# Altium footprint library ROBOCAM_1.PcbLib: 116 footprints (part 6 of 8)
Each footprint in its own frame and in the unit in brackets; x right, y up, seen from the top. Pads: shape width x height; smd on the part's side, far side on the other; paste and mask are expansions set on the pad; w line width, h text height; cw(c..) or ccw(c..) is an arc to the next point about the centre after c.
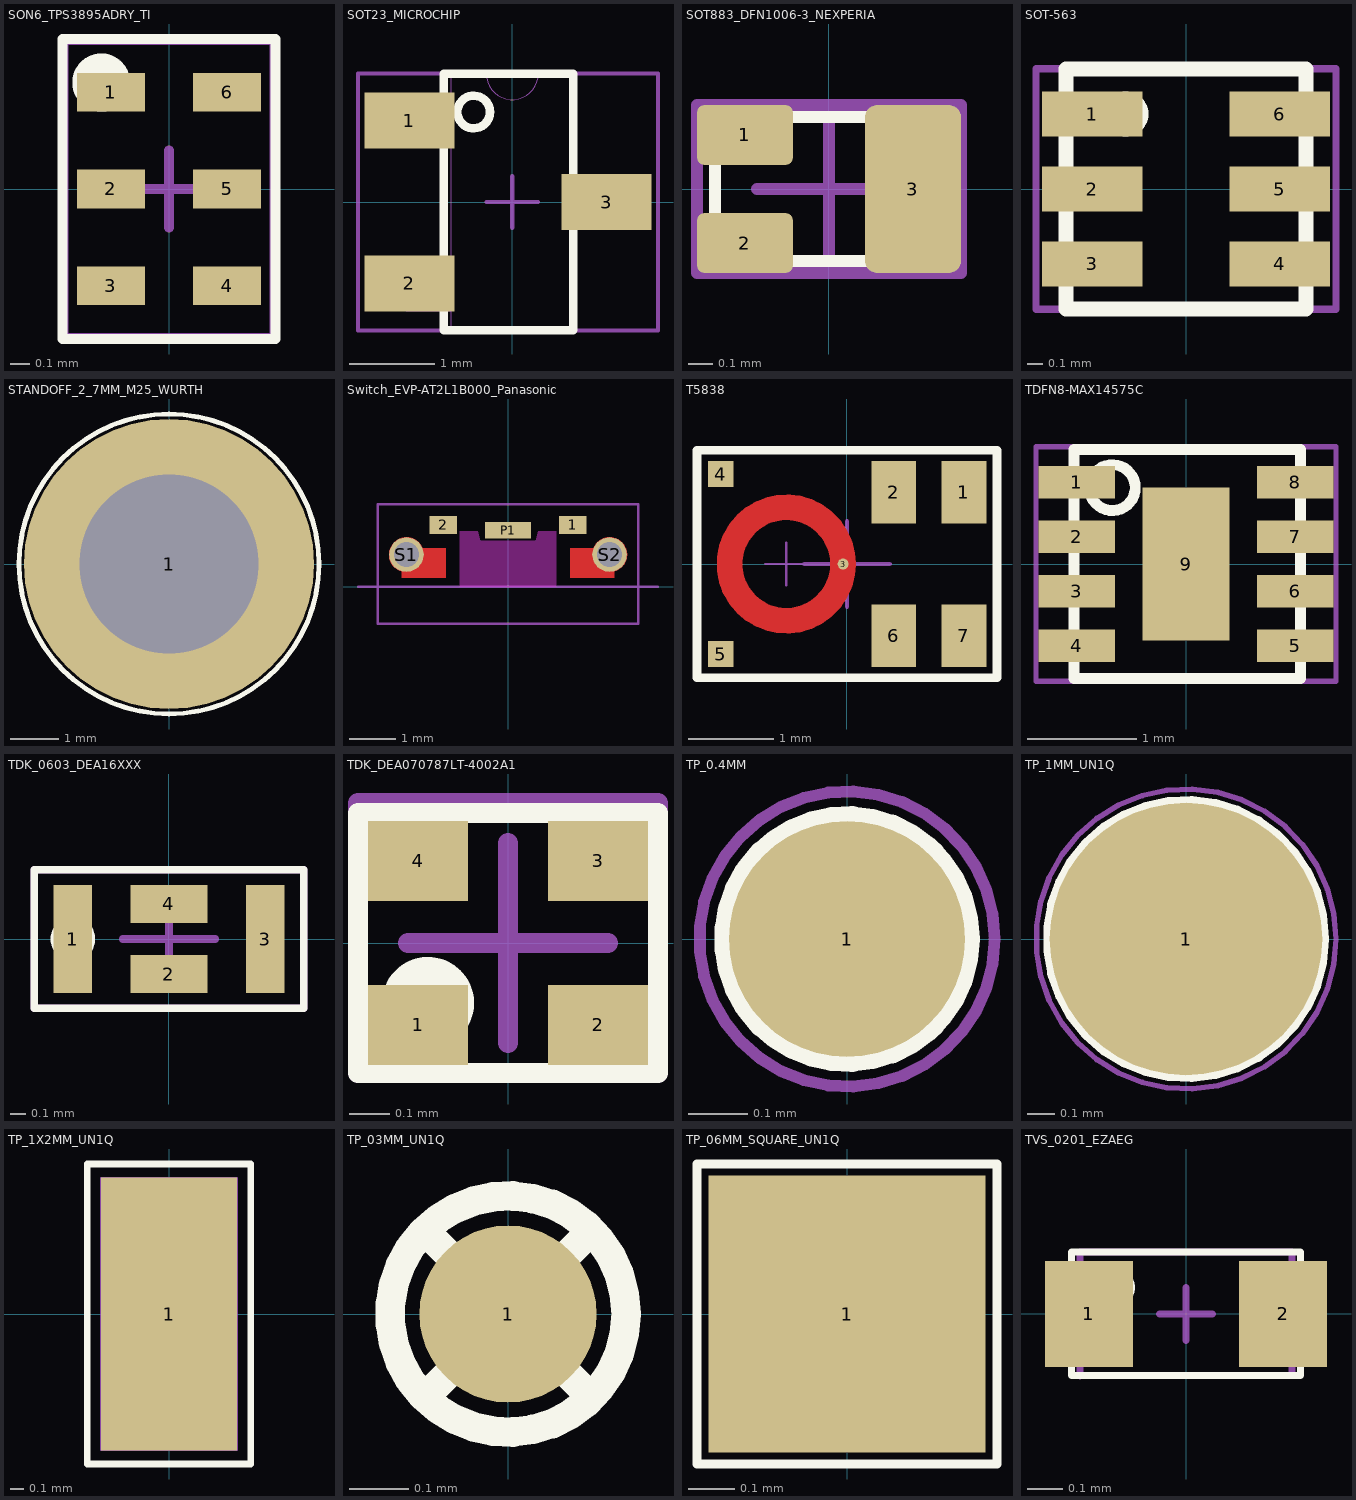
[diagram p5: the footprints below, top view; thin cyan lines are the x and y axes]

## SON6_TPS3895ADRY_TI [mm] "6-UFDFN"
height 0.55
pads (6):
  rect 0.35x0.2 smd paste+0 mask+0.05: 1(-0.3,0.5) 2(-0.3,0) 3(-0.3,-0.5) 4(0.3,-0.5) 5(0.3,0) 6(0.3,0.5)
Top Overlay:
  circle w0.2: c-0.35,0.55 r0.05
  lines w0.05: -0.55,-0.775 0.55,-0.775 0.55,0.775 -0.55,0.775 -0.55,-0.775
Top Courtyard:
  lines w0.01: -0.525,-0.75 -0.525,0.75 0.525,0.75 0.525,-0.75 -0.525,-0.75
  lines w0.05: -0.2,0 0.2,0 ; 0,-0.2 0,0.2
Top Designator:
  text ".Designator" at 7.618,0.508 h1.52
3D body: height 0.7, standoff 0.69, extent -0.45,0.35 -0.15,0.65
3D body "TPS3895ADRYR.stp": height 0.7, standoff 0, extent -0.5,-0.725 0.5,0.725

## SOT23_MICROCHIP [mm] "SOT-23, 3 pins, 2.5 x 2.9 x 1.1mm for"
height 1.1
pads (3):
  rect 1.05x0.65 smd paste+0 mask+0.05: 1(-1.2,0.95) 2(-1.2,-0.95) 3(1.1,0)
Top Overlay:
  circle w0.1: c-0.45,1.05 r0.19
  lines w0.1: -0.8,-1.499 -0.8,1.499 0.711,1.499 0.711,-1.499 -0.8,-1.499
Top 3D Body:
  lines w0: -0.305,1.499 ccw(c0,1.499) 0.305,1.499 ; -1.245,-1.27 -1.245,-0.762 -0.711,-0.762 -0.711,-1.27 -1.245,-1.27 ; -1.245,0.762 -1.245,1.27 -0.711,1.27 -0.711,0.762 -1.245,0.762 ; -0.711,-1.499 0.711,-1.499 0.711,1.499 -0.711,1.499 -0.711,-1.499 ; 0.711,-0.254 0.711,0.254 1.245,0.254 1.245,-0.254 0.711,-0.254
Top Courtyard:
  lines w0.05: -0.3,0 0.3,0 ; 0,-0.3 0,0.3 ; -1.8,-1.5 -1.8,1.499 1.7,1.499 1.7,-1.5 -1.8,-1.5
Top Designator:
  text ".Designator" at -7.668,-0.508 h1.52
3D body "step_temp.STEP": height 1.15, standoff 0, extent -1.2,-1.45 1.2,1.45

## SOT883_DFN1006-3_NEXPERIA [mm] "DFN1006-3 1.0 x 0.6"
height 0.5
pads (3):
  rrect25% 0.4x0.25 smd paste-0.02 mask+0.05: 1(-0.35,0.225) 2(-0.35,-0.225)
  rrect25% 0.4x0.7 smd paste-0.04 mask+0.05: 3(0.35,0)
Top Overlay:
  circle w0.1: c-0.375,0.2 r0.05
  lines w0.05: -0.475,-0.3 -0.475,0.3 0.525,0.3 0.525,-0.3 -0.475,-0.3
Top Courtyard:
  lines w0.05: -0.3,0 0.3,0 ; 0,-0.3 0,0.3 ; -0.55,-0.35 -0.55,0.35 0.55,0.35 0.55,-0.35 -0.55,-0.35
Top Designator:
  text ".Designator" at -7.618,-0.508 h1.52
3D body "SOT883-2_Nexperia.step": height 0.5, standoff 0.02, extent -0.478,-0.3 0.522,0.3
3D body: height 0.5, standoff 0.4, extent -0.449,-0.275 0.475,0.275

## SOT-563 [mm] "SOT-563, SOT-666, EMT6"
height 0.5
pads (6):
  rect 0.67x0.3 smd paste+0 mask+0.05: 1(-0.625,0.5) 2(-0.625,0) 3(-0.625,-0.5) 4(0.625,-0.5) 5(0.625,0) 6(0.625,0.5)
Top Overlay:
  circle w0.15: c-0.4,0.5 r0.075
  lines w0.1: -0.8,-0.8 0.8,-0.8 0.8,0.8 -0.8,0.8 -0.8,-0.8
Top Courtyard:
  lines w0.05: -1,-0.8 1,-0.8 1,0.8 -1,0.8 -1,-0.8
Top Designator:
  text ".Designator" at -7.618,-0.508 h1.52
3D body "EM6M2T2R.stp": height 0.55, standoff 0, extent -0.8,-0.8 0.8,0.8
3D body: height 0.51, standoff 0.5, extent -0.5,0.4 -0.3,0.6

## STANDOFF_2_7MM_M25_WURTH [mm] "Standoff 2.7 mm M2.5  Hole 3.7 mm"
height 2.7
pads (1):
  round 6 / inner round 4 / far side round 4 hole 3.7 paste-2539.97 mask+0.1: 1(0,0)
Top Overlay:
  circle w0.1: c0,0 r3.1
Top Paste:
  lines w1.2: -0.846,-2.325 cw(c0,0) -0.846,2.325 ; 0.846,-2.325 ccw(c0,0) 0.846,2.325
Top Courtyard:
  circle w0.05: c0,0 r3.1
  lines w0.05: -1,0 1,0 ; 0,-1 0,1
Top Designator:
  text ".Designator" at 7.618,0.508 h1.52
3D body "9774027151R_rev1.stp": height 2.75, standoff -1.35, extent -2.55,-2.547 2.55,2.547

## Switch_EVP-AT2L1B000_Panasonic [mm]
height 1.65
pads (5):
  rect 0.6x0.4 smd: 1(1.4,1.34) 2(-1.4,1.34)
  rect 1x0.35 smd: P1(0,1.225)
  round 0.75 hole 0.55 mask+0.102: S1(-2.2,0.7) S2(2.2,0.7)
Top Layer:
  region: 2.22,1.075 2.239,1.073 2.258,1.071 2.277,1.067 2.296,1.063 2.315,1.057 2.334,1.051 2.352,1.044 2.369,1.035 2.386,1.026 2.403,1.016 2.419,1.005 2.435,0.994 2.45,0.981 2.464,0.968 2.478,0.954 2.491,0.94 2.503,0.925 2.514,0.909 2.525,0.893 2.535,0.876 2.543,0.858 2.551,0.841 2.558,0.822 2.564,0.804 2.569,0.785 2.574,0.766 2.577,0.747 2.579,0.728 2.58,0.71 2.58,0.688 2.579,0.669 2.577,0.649 2.574,0.629 2.57,0.61 2.565,0.591 2.559,0.572 2.552,0.553 2.544,0.535 2.535,0.518 2.525,0.501 2.514,0.484 2.502,0.468 2.49,0.453 2.476,0.438 2.462,0.424 2.447,0.411 2.432,0.399 2.416,0.387 2.399,0.377 2.382,0.367 2.364,0.358 2.346,0.351 2.327,0.344 2.308,0.338 2.289,0.333 2.269,0.33 2.25,0.327 2.23,0.326 2.21,0.325 2.3,0.325 2.3,0.2 1.35,0.2 1.35,0.84 1.855,0.84 1.861,0.853 1.867,0.866 1.874,0.879 1.881,0.892 1.889,0.904 1.897,0.917 1.906,0.928 1.915,0.94 1.925,0.951 1.935,0.962 1.945,0.972 1.956,0.982 1.967,0.991 1.979,1 1.991,1.009 2.003,1.017 2.015,1.024 2.028,1.032 2.041,1.038 2.055,1.044 2.068,1.05 2.082,1.055 2.096,1.059 2.11,1.063 2.125,1.067 2.139,1.069 2.153,1.072 2.168,1.073 2.183,1.074 2.2,1.075
  region: -2.185,1.075 -2.17,1.074 -2.155,1.073 -2.14,1.071 -2.125,1.068 -2.11,1.065 -2.095,1.061 -2.08,1.056 -2.066,1.051 -2.052,1.045 -2.038,1.039 -2.024,1.032 -2.011,1.025 -1.998,1.016 -1.985,1.008 -1.973,0.999 -1.961,0.989 -1.949,0.979 -1.938,0.968 -1.928,0.957 -1.917,0.946 -1.908,0.934 -1.899,0.922 -1.89,0.909 -1.882,0.896 -1.874,0.882 -1.867,0.869 -1.861,0.855 -1.855,0.84 -1.35,0.84 -1.35,0.2 -2.3,0.2 -2.3,0.325 -2.215,0.325 -2.235,0.326 -2.254,0.327 -2.274,0.33 -2.293,0.334 -2.312,0.338 -2.331,0.344 -2.35,0.351 -2.368,0.359 -2.386,0.368 -2.403,0.378 -2.419,0.388 -2.435,0.4 -2.45,0.412 -2.465,0.426 -2.479,0.44 -2.492,0.455 -2.504,0.47 -2.516,0.486 -2.526,0.503 -2.536,0.52 -2.544,0.538 -2.552,0.556 -2.558,0.575 -2.564,0.594 -2.568,0.613 -2.572,0.632 -2.574,0.652 -2.576,0.672 -2.576,0.691 -2.575,0.71 -2.573,0.731 -2.571,0.749 -2.568,0.768 -2.564,0.786 -2.559,0.804 -2.553,0.822 -2.546,0.84 -2.538,0.857 -2.53,0.873 -2.521,0.89 -2.511,0.905 -2.5,0.921 -2.488,0.936 -2.476,0.95 -2.463,0.963 -2.449,0.976 -2.435,0.989 -2.421,1 -2.405,1.011 -2.389,1.021 -2.373,1.03 -2.356,1.039 -2.339,1.046 -2.322,1.053 -2.304,1.059 -2.286,1.064 -2.268,1.068 -2.249,1.071 -2.231,1.074 -2.215,1.075 -2.201,1.075
Top Paste:
  region: 1.783,0.718 1.783,0.699 1.784,0.681 1.787,0.662 1.79,0.643 1.793,0.625 1.798,0.607 1.803,0.589 1.809,0.571 1.816,0.553 1.824,0.536 1.832,0.519 1.841,0.503 1.851,0.486 1.862,0.471 1.873,0.456 1.885,0.441 1.897,0.427 1.91,0.413 1.924,0.4 1.938,0.388 1.952,0.376 1.967,0.365 1.983,0.354 1.999,0.344 2.016,0.335 2.032,0.327 2.05,0.319 2.067,0.312 2.087,0.305 1.455,0.305 1.455,0.735 1.783,0.735
  region: -1.455,0.305 -2.087,0.305 -2.067,0.312 -2.05,0.319 -2.032,0.327 -2.016,0.335 -1.999,0.344 -1.983,0.354 -1.967,0.365 -1.952,0.376 -1.938,0.388 -1.924,0.4 -1.91,0.413 -1.897,0.427 -1.885,0.441 -1.873,0.456 -1.862,0.471 -1.851,0.486 -1.841,0.503 -1.832,0.519 -1.824,0.536 -1.816,0.553 -1.809,0.571 -1.803,0.589 -1.798,0.607 -1.793,0.625 -1.79,0.643 -1.787,0.662 -1.784,0.681 -1.783,0.699 -1.783,0.718 -1.783,0.735 -1.455,0.735
Top Solder:
  region: 2.244,1.169 2.284,1.164 2.324,1.155 2.363,1.143 2.401,1.127 2.437,1.109 2.471,1.087 2.504,1.062 2.534,1.035 2.562,1.005 2.587,0.973 2.609,0.939 2.628,0.903 2.644,0.865 2.657,0.827 2.667,0.787 2.673,0.747 2.675,0.71 2.674,0.688 2.673,0.67 2.671,0.651 2.668,0.633 2.665,0.616 2.661,0.598 2.657,0.58 2.652,0.563 2.646,0.545 2.639,0.528 2.632,0.511 2.625,0.495 2.616,0.479 2.608,0.463 2.598,0.447 2.588,0.432 2.578,0.417 2.567,0.402 2.555,0.388 2.543,0.374 2.531,0.361 2.518,0.348 2.504,0.336 2.49,0.324 2.476,0.313 2.461,0.302 2.446,0.292 2.431,0.282 2.415,0.273 2.4,0.265 2.4,0.1 1.25,0.1 1.25,0.94 1.795,0.94 1.818,0.976 1.844,1.007 1.872,1.037 1.902,1.064 1.935,1.089 1.969,1.11 2.006,1.129 2.043,1.144 2.082,1.156 2.122,1.164 2.163,1.17 2.203,1.171
  region: -2.156,1.168 -2.115,1.163 -2.075,1.154 -2.036,1.142 -1.999,1.126 -1.962,1.108 -1.928,1.086 -1.895,1.061 -1.865,1.034 -1.837,1.004 -1.812,0.972 -1.79,0.94 -1.25,0.94 -1.25,0.1 -2.4,0.1 -2.4,0.265 -2.414,0.272 -2.431,0.28 -2.447,0.289 -2.462,0.299 -2.478,0.31 -2.493,0.321 -2.507,0.332 -2.521,0.344 -2.535,0.357 -2.548,0.37 -2.56,0.384 -2.572,0.398 -2.583,0.413 -2.594,0.428 -2.604,0.444 -2.614,0.459 -2.623,0.476 -2.631,0.492 -2.638,0.509 -2.645,0.527 -2.651,0.544 -2.657,0.562 -2.662,0.58 -2.666,0.598 -2.669,0.616 -2.672,0.634 -2.674,0.653 -2.675,0.671 -2.675,0.69 -2.675,0.71 -2.672,0.75 -2.665,0.79 -2.655,0.83 -2.642,0.868 -2.625,0.906 -2.605,0.941 -2.583,0.975 -2.557,1.007 -2.529,1.037 -2.498,1.064 -2.466,1.088 -2.431,1.109 -2.394,1.128 -2.357,1.143 -2.318,1.155 -2.278,1.163 -2.237,1.168 -2.196,1.17
Keep-Out Layer:
  region: 1.05,0 -1.05,0 -1.05,1.2 -0.65,1.2 -0.6,1 0.6,1 0.65,1.2 1.05,1.2
  region: 1.05,0 -1.05,0 -1.05,1.2 -0.65,1.2 -0.6,1 0.6,1 0.65,1.2 1.05,1.2
Mechanical 4:
  lines w0.05: -3.25,0 3.25,0
  text "PCB edge" at 3,0.187 h1
Top Courtyard:
  lines w0.05: -2.825,-0.8 2.825,-0.8 2.825,1.79 -2.825,1.79 -2.825,-0.8
Top Designator:
  text ".Designator" at 9.465,1.003 h1.52
3D body "EVP-AT2L1B000.stp": height 1.11, standoff -0.54, extent -2.275,-0.55 2.275,1.35

## T5838 [mm] "PDM Digital Output Multi-Mode Microphone"
height 0.87
pads (7):
  rect 0.522x0.725 smd paste-0.05 mask+0.05: 1(1.364,0.838) 2(0.544,0.838) 6(0.544,-0.837) 7(1.364,-0.837)
  round 0.127 smd: 3(-0.046,0)
  rect 0.3x0.3 smd paste-2539.97 mask+0.05: 4(-1.473,1.05) 5(-1.473,-1.05)
Top Layer:
  circle w0.3: c-0.708,0 r0.663
Top Overlay:
  circle w0.2: c1.364,0.838 r0.1
  lines w0.1: -1.75,-1.325 -1.75,1.325 1.75,1.325 1.75,-1.325 -1.75,-1.325
Top Paste:
  region: -1.608,-1.185 -1.608,-0.915 -1.338,-0.915 -1.338,-1.185
  region: -1.608,0.915 -1.608,1.185 -1.338,1.185 -1.338,0.915
Top Courtyard:
  lines w0.025: -0.958,0 -0.458,0 ; -0.708,-0.25 -0.708,0.25
  lines w0.05: -0.5,0 0.5,0 ; 0,-0.5 0,0.5 ; -1.75,-1.325 -1.75,1.325 1.75,1.325 1.75,-1.325 -1.75,-1.325
Top Designator:
  text ".Designator" at 7.618,0.508 h1.52
3D body "T5838.stp": height 0.97, standoff -0.01, extent -1.75,-1.325 1.75,1.325
3D body: height 0.98, standoff 0.8, extent 1.214,0.688 1.514,0.988

## TDFN8-MAX14575C [mm] "TDFN8 for MAX14575C, 2.05mm(L) x 2.05mm(W) x 0.80mm(H)"
height 0.8
pads (9):
  rect 0.7x0.3 smd paste+0 mask+0.05: 1(-1,0.75) 2(-1,0.25) 3(-1,-0.25) 4(-1,-0.75) 5(1,-0.75) 6(1,-0.25) 7(1,0.25) 8(1,0.75)
  rect 0.8x1.4 smd paste+0 mask+0.05: 9(0,0)
Top Overlay:
  circle w0.1: c-0.675,0.7 r0.21
  lines w0.1: -1.025,-1.05 1.05,-1.05 1.05,1.05 -1.025,1.05 -1.025,-1.05
Top Courtyard:
  lines w0.05: -0.3,0 0.25,0 ; -0.025,-0.275 -0.025,0.275 ; -1.375,-1.075 1.375,-1.075 1.375,1.075 -1.375,1.075 -1.375,-1.075
Top Designator:
  text ".Designator" at -7.618,-0.508 h1.52
3D body "MAX14575CETA+T.stp": height 0.8, standoff 0, extent -1.05,-1 1.05,1
3D body: height 0.79, standoff 0.7, extent -0.925,0.6 -0.625,0.9

## TDK_0603_DEA16XXX [mm] "TDK 0603 DEA16XXX 3 or 4 pin filters"
height 0.6
pads (4):
  rect 0.25x0.7 smd mask+0.05: 1(-0.625,0) 3(0.625,0)
  rect 0.5x0.245 smd mask+0.05: 2(0,-0.228) 4(0,0.228)
Top Overlay:
  circle w0.15: c-0.625,0 r0.07
  lines w0.05: -0.875,-0.45 0.875,-0.45 0.875,0.45 -0.875,0.45 -0.875,-0.45
Top Courtyard:
  lines w0.05: -0.3,0 0.3,0 ; 0,-0.3 0,0.3 ; -0.875,-0.45 0.875,-0.45 0.875,0.45 -0.875,0.45 -0.875,-0.45
Top Designator:
  text ".Designator" at 7.618,0.508 h1.52
3D body: height 0.7, standoff 0, extent -0.9,-0.475 0.9,0.475
3D body: height 0.71, standoff 0.6, extent -0.75,-0.175 -0.4,0.175

## TDK_DEA070787LT-4002A1 [mm] "TDK DEA070787LT-4002A1"
height 0.3
pads (4):
  rect 0.25x0.2 smd paste+0 mask+0.05: 1(-0.225,-0.205) 2(0.225,-0.205) 3(0.225,0.205) 4(-0.225,0.205)
Top Overlay:
  circle w0.15: c-0.2,-0.15 r0.04
  lines w0.05: -0.375,-0.325 -0.375,0.325 0.375,0.325 0.375,-0.325 -0.375,-0.325
Top Courtyard:
  lines w0.05: -0.25,0 0.25,0 ; 0,-0.25 0,0.25 ; -0.375,-0.325 -0.375,0.35 0.375,0.35 0.375,-0.325 -0.375,-0.325
Top Designator:
  text ".Designator" at 7.618,0.518 h1.52
3D body: height 0.3, standoff 0, extent -0.35,-0.275 0.35,0.275
3D body: height 0.31, standoff 0, extent -0.3,-0.225 -0.1,-0.025

## TP_0.4MM [mm] "Test Point 0.4mm"
height 0.03
pads (1):
  round 0.4 smd paste-0.5 mask+0.05: 1(0,0)
Top Overlay:
  circle w0.05: c0,0 r0.2
  lines w0.05: -0.141,-0.141 0.141,0.141 ; -0.141,0.141 0.141,-0.141
Top Courtyard:
  circle w0.02: c0,0 r0.25
Top Designator:
  text ".Designator" at 7.618,0.508 h1.52
3D body: height 0.01, standoff 0, extent -0.204,-0.187 0.196,0.213

## TP_1MM_UN1Q [mm] "Test Point, Circular, 1.0 mm"
height 0.03
pads (1):
  round 1 smd paste-1 mask+0.06: 1(0,0)
Top Overlay:
  circle w0.05: c0,0 r0.5
  lines w0.05: -0.35,-0.35 0,0 0.35,0.35 ; -0.35,0.35 0.35,-0.35
Top Courtyard:
  circle w0.02: c0,0 r0.55
Top Designator:
  text ".Designator" at 7.618,0.508 h1.52
3D body: height 0.02, standoff 0, extent -0.496,-0.499 0.5,0.499

## TP_1X2MM_UN1Q [mm] "Test Point 1 mm x 2 mm"
height 0.02
pads (1):
  rect 1x2 smd paste-5 mask+0.1: 1(0,0)
Top Overlay:
  lines w0.05: -0.6,-1.1 -0.6,1.1 0.6,1.1 0.6,-1.1 -0.6,-1.1
Top Courtyard:
  lines w0.01: -0.5,-1 -0.5,1 0.5,1 0.5,-1 -0.5,-1
  lines w0.05: -0.25,0 0.25,0 ; 0,-0.25 0,0.25
Top Designator:
  text ".Designator" at -7.618,-0.508 h1.52
3D body: height 0.03, standoff 0, extent -0.5,-1 0.5,1

## TP_03MM_UN1Q [mm] "Test Point 0.3 mm"
height 0.03
pads (1):
  round 0.3 smd paste-1 mask+0.06: 1(0,0)
Top Overlay:
  circle w0.05: c0,0 r0.2
  lines w0.05: -0.125,-0.125 0,0 0.125,0.125 ; -0.125,0.125 0.125,-0.125
Top Courtyard:
  circle w0.02: c0,0 r0.2
Top Designator:
  text ".Designator" at 7.618,0.508 h1.52
3D body: height 0.02, standoff 0, extent -0.15,-0.15 0.15,0.15

## TP_06MM_SQUARE_UN1Q [mm] "Test Point, Square, 0.6mm"
height 0.02
pads (1):
  rect 0.6x0.6 smd paste-1 mask+0.05: 1(0,0)
Top Overlay:
  lines w0.02: -0.325,-0.325 0.325,-0.325 0.325,0.325 -0.325,0.325 -0.325,-0.325
Top Designator:
  text ".Designator" at 7.618,0.508 h1.52
3D body: height 0.02, standoff 0, extent -0.3,-0.3 0.3,0.3

## TVS_0201_EZAEG [mm] "TVS 0201 0.04pF Panasonic EZAEG1A"
height 0.33
pads (2):
  rect 0.25x0.3 smd mask+0.05: 1(-0.275,0) 2(0.275,0)
Top Overlay:
  circle w0.1: c-0.197,0.075 r0.003
  lines w0.02: -0.325,-0.175 -0.325,0.175 0.325,0.175 0.325,-0.175 -0.325,-0.175
Top Courtyard:
  lines w0.02: -0.075,0 0.075,0 ; 0,-0.075 0,0.075 ; -0.3,-0.175 -0.3,0.175 0.3,0.175 0.3,-0.175 -0.3,-0.175
Top Designator:
  text ".Designator" at -7.618,-0.508 h1.52
3D body: height 0.26, standoff 0, extent -0.325,-0.175 0.325,0.175